# EAGLE library part P7LP (library filter-coilcraft)
7 Pole low pass filter Parts in red type are included in Coilcraft Designer's Kit D101 - 3dB cutoff frequency Part number Irms (mA) 0.30 MHz P7LP-304 <cfm/index.cfm?fuseaction=request_sample&part_number=P7LP-304> 100 0.60 MHz P7LP-604 <cfm/index.cfm?fuseaction=request_sample&part_number=P7LP-604> 200 1.5 MHz P7LP-155 <cfm/index.cfm?fuseaction=request_sample&part_number=P7LP-155> 200 3.0 MHz P7LP-305 <cfm/index.cfm?fuseaction=request_sample&part_number=P7LP-305> 250 6.0 MHz > P7LP-605 <cfm/index.cfm?fuseaction=request_sample&part_number=P7LP-605> 250 15 MHz P7LP-156 <cfm/index.cfm?fuseaction=request_sample&part_number=P7LP-156> 300 30 MHz P7LP-306 <cfm/index.cfm?fuseaction=request_sample&part_number=P7LP-306> 400 60 MHz P7LP-606 <cfm/index.cfm?fuseaction=request_sample&part_number=P7LP-606> 500 150 MHz P7LP-157 <cfm/index.cfm?fuseaction=request_sample&part_number=P7LP-157> 600 300 MHz P7LP-307 <cfm/index.cfm?fuseaction=request_sample&part_number=P7LP-307> 600 500 MHz P7LP-507 <cfm/index.cfm?fuseaction=request_sample&part_number=P7LP-507> 600 1 Tested on an Agilent/HP 8753D / HP 3577B 2 Average current for a 15°C rise above 25°C ambient. Details <ds/Doc361_Current&Temp.pdf> 3 Operating temperature range -40°C to +85°C. Details <ds/Doc361_Current&Temp.pdf> 4 Electrical specifications at 25°C.
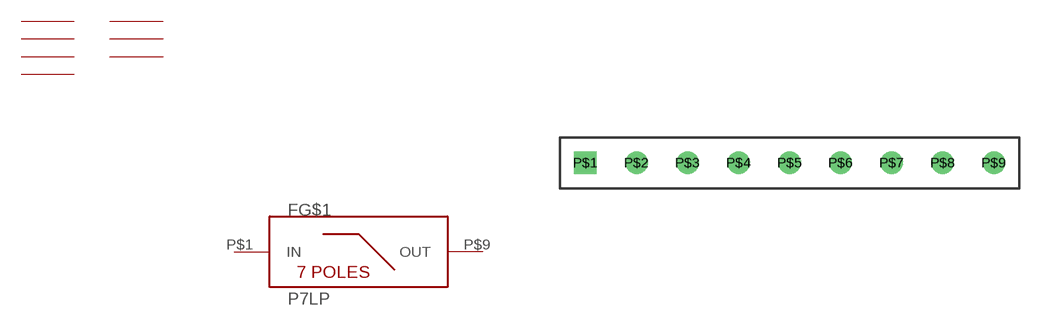
[diagram p0: symbol with the pads of SIP-9; footprint SIP-9]

Designator prefix F; gates G$1=LPF-7POLES G$2=GND G$3=GND G$4=GND G$5=GND G$6=GND G$7=GND G$8=GND

## P7LP-304  [SIP-9]
P$1  G$1:IN
P$2  G$2:GND  pwr
P$3  G$3:GND  pwr
P$4  G$4:GND  pwr
P$5  G$5:GND  pwr
P$6  G$6:GND  pwr
P$7  G$7:GND  pwr
P$8  G$8:GND  pwr
P$9  G$1:OUT

## P7LP-604  [SIP-9]
Pads as for SIP-9

## P7LP-155  [SIP-9]
Pads as for SIP-9

## P7LP-305  [SIP-9]
Pads as for SIP-9

## P7LP-605  [SIP-9]
Pads as for SIP-9

## P7LP-156  [SIP-9]
Pads as for SIP-9

## P7LP-306  [SIP-9]
Pads as for SIP-9

## P7LP-606  [SIP-9]
Pads as for SIP-9

## P7LP-157  [SIP-9]
Pads as for SIP-9

## P7LP-307  [SIP-9]
Pads as for SIP-9

## P7LP-507  [SIP-9]
Pads as for SIP-9

## Footprint SIP-9 (pad centres in mm)
drill 0.61 square: P$1 0,0
drill 0.61 round: P$2 2.54,0; P$3 5.08,0; P$4 7.62,0; P$5 10.16,0; P$6 12.7,0; P$7 15.24,0; P$8 17.78,0; P$9 20.32,0